# Altium footprint library sensors.PcbLib: 1 footprints
Each footprint in its own frame and in the unit in brackets; x right, y up, seen from the top. Pads: shape width x height; smd on the part's side, far side on the other; paste and mask are expansions set on the pad; w line width, h text height; cw(c..) or ccw(c..) is an arc to the next point about the centre after c.
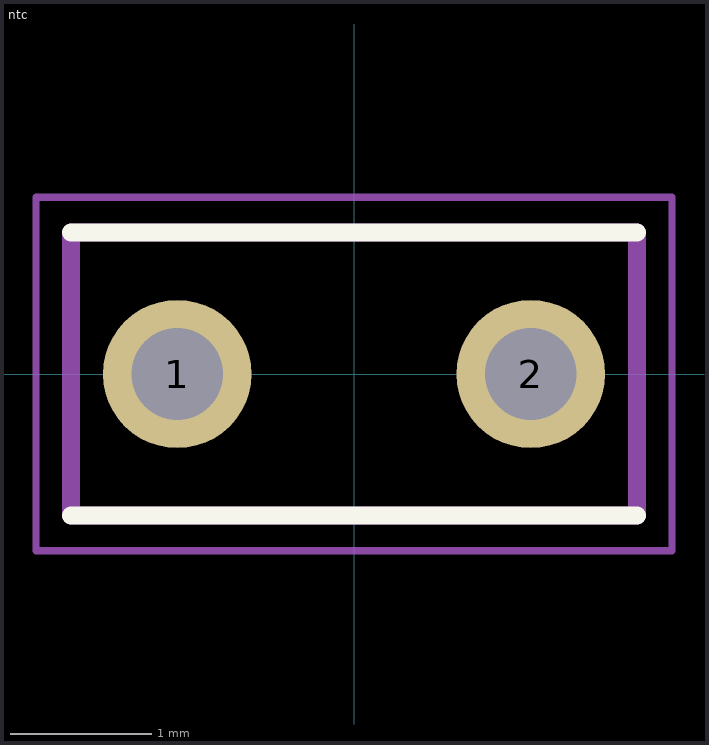
[diagram p0: the footprint, top view; thin cyan lines are the x and y axes]

## ntc [mm]
pads (2):
  round 1.05 hole 0.65: 1(-1.25,0) 2(1.25,0)
Top Overlay:
  lines w0.127: -2,-1 2,-1 ; -2,1 2,1
Mechanical 13:
  lines w0.127: -2,-1 2,-1 2,1 -2,1 -2,-1
Mechanical 15:
  lines w0.05: -2.25,-1.25 -2.25,1.25 2.25,1.25 2.25,-1.25 -2.25,-1.25
3D body "NXRT15WB473FA1B010.STEP": height 7.49, standoff -3.5, extent -2,-0.73 2,1.27